# Altium footprint library PG-TSDSO-24-1.PcbLib: 1 footprints
Each footprint in its own frame and in the unit in brackets; x right, y up, seen from the top. Pads: shape width x height; smd on the part's side, far side on the other; paste and mask are expansions set on the pad; w line width, h text height; cw(c..) or ccw(c..) is an arc to the next point about the centre after c.
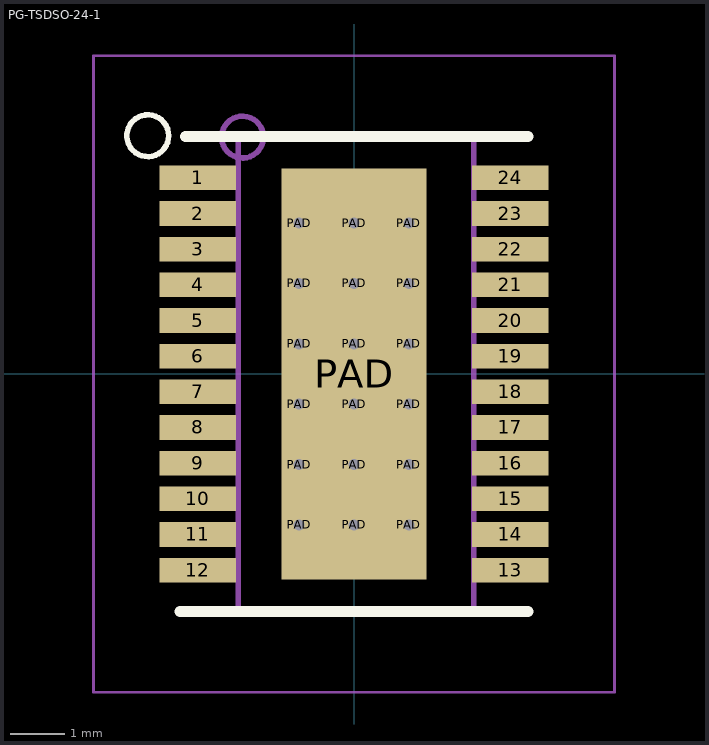
[diagram p0: the footprint, top view; thin cyan lines are the x and y axes]

## PG-TSDSO-24-1 [mm]
pads (43):
  rect 1.4x0.45 smd paste+0 mask+0.051: 1(-2.85,3.575) 2(-2.85,2.925) 3(-2.85,2.275) 4(-2.85,1.625) 5(-2.85,0.975) 6(-2.85,0.325) 7(-2.85,-0.325) 8(-2.85,-0.975) 9(-2.85,-1.625) 10(-2.85,-2.275) 11(-2.85,-2.925) 12(-2.85,-3.575) 13(2.85,-3.575) 14(2.85,-2.925) 15(2.85,-2.275) 16(2.85,-1.625) 17(2.85,-0.975) 18(2.85,-0.325) 19(2.85,0.325) 20(2.85,0.975) 21(2.85,1.625) 22(2.85,2.275) 23(2.85,2.925) 24(2.85,3.575)
  round 0.5 hole 0.203 mask+0.051: PAD(-1,-2.75) PAD(-1,-1.65) PAD(-1,-0.55) PAD(-1,0.55) PAD(-1,1.65) PAD(-1,2.75) PAD(0,-2.75) PAD(0,-1.65) PAD(0,-0.55) PAD(0,0.55) PAD(0,1.65) PAD(0,2.75) PAD(1,-2.75) PAD(1,-1.65) PAD(1,-0.55) PAD(1,0.55) PAD(1,1.65) PAD(1,2.75)
  rect 2.65x7.5 smd paste+0 mask+0.051: PAD(0,0)
Top Overlay:
  circle w0.102: c-3.759,4.343 r0.381
  lines w0.2: -3.175,-4.325 3.175,-4.325 ; -3.073,4.325 -0.305,4.325 ; -0.5,4.325 3.175,4.325
Mechanical 13:
  circle w0.102: c-2.032,4.318 r0.381
  lines w0.102: -3.365,-3.727 -2.311,-3.727 -2.311,-3.423 -3.365,-3.423 -3.365,-3.727 ; -3.365,-3.077 -2.311,-3.077 -2.311,-2.773 -3.365,-2.773 -3.365,-3.077 ; -3.365,-2.427 -2.311,-2.427 -2.311,-2.123 -3.365,-2.123 -3.365,-2.427 ; -3.365,-1.777 -2.311,-1.777 -2.311,-1.473 -3.365,-1.473 -3.365,-1.777 ; -3.365,-1.127 -2.311,-1.127 -2.311,-0.823 -3.365,-0.823 -3.365,-1.127 ; -3.365,-0.477 -2.311,-0.477 -2.311,-0.173 -3.365,-0.173 -3.365,-0.477 ; -3.365,0.173 -2.311,0.173 -2.311,0.477 -3.365,0.477 -3.365,0.173 ; -3.365,0.823 -2.311,0.823 -2.311,1.127 -3.365,1.127 -3.365,0.823 ; -3.365,1.473 -2.311,1.473 -2.311,1.777 -3.365,1.777 -3.365,1.473 ; -3.365,2.123 -2.311,2.123 -2.311,2.427 -3.365,2.427 -3.365,2.123 ; -3.365,2.773 -2.311,2.773 -2.311,3.077 -3.365,3.077 -3.365,2.773 ; -3.365,3.423 -2.311,3.423 -2.311,3.727 -3.365,3.727 -3.365,3.423 ; -2.108,-4.318 2.184,-4.318 2.184,4.318 -2.108,4.318 -2.108,-4.318 ; 2.311,-3.727 3.365,-3.727 3.365,-3.423 2.311,-3.423 2.311,-3.727 ; 2.311,-3.077 3.365,-3.077 3.365,-2.773 2.311,-2.773 2.311,-3.077 ; 2.311,-2.427 3.365,-2.427 3.365,-2.123 2.311,-2.123 2.311,-2.427 ; 2.311,-1.777 3.365,-1.777 3.365,-1.473 2.311,-1.473 2.311,-1.777 ; 2.311,-1.127 3.365,-1.127 3.365,-0.823 2.311,-0.823 2.311,-1.127 ; 2.311,-0.477 3.365,-0.477 3.365,-0.173 2.311,-0.173 2.311,-0.477 ; 2.311,0.173 3.365,0.173 3.365,0.477 2.311,0.477 2.311,0.173 ; 2.311,0.823 3.365,0.823 3.365,1.127 2.311,1.127 2.311,0.823 ; 2.311,1.473 3.365,1.473 3.365,1.777 2.311,1.777 2.311,1.473 ; 2.311,2.123 3.365,2.123 3.365,2.427 2.311,2.427 2.311,2.123 ; 2.311,2.773 3.365,2.773 3.365,3.077 2.311,3.077 2.311,2.773 ; 2.311,3.423 3.365,3.423 3.365,3.727 2.311,3.727 2.311,3.423
Mechanical 15:
  lines w0.05: -4.75,-5.8 -4.75,5.8 4.75,5.8 4.75,-5.8 -4.75,-5.8
  lines w0.1: -0.5,0 0.5,0 ; 0,-0.5 0,0.5
3D body "User Library-User Library-TSSOP-24.STEP": height 1.2, standoff 0, extent -3.3,-3.938 3.25,3.962
3D body: height 0.25, standoff 0, extent 0,0 0.254,0.254